# Altium schematic symbol library MSS2P3-M3_89A.SchLib: 1 symbol
Pins are listed as number, name and electrical type; pins without a type are passive.

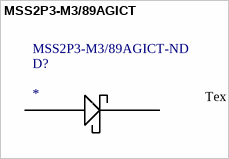
[diagram p0: symbol MSS2P3-M3/89AGICT]

## MSS2P3-M3/89AGICT
designator D?  Supplier Part Number 1: MSS2P3-M3/89AGICT-ND
Manufacturer: Vishay Semiconductors; Manufacturer Part Number: MSS2P3-M3/89A; Description: Diode Schottky 30V 2A 2-Pin Micro SMP T/R; Max Surge Current: 30A; Forward Voltage: 600mV; Forward Current: 2A; Peak Reverse Current: 250uA; Reverse Voltage (DC): 30V; Element Configuration: Single; Supplier 1: Digikey; Stock 1: 2875; Pricing 1: 1=0.39, 10=0.288, 25=0.252, 100=0.1631, 250=0.135, 500=0.108, 1000=0.0828 (USD); Mount: Surface Mount; Case/Package: SMD/SMT; Number of Pins: 2; Contact Plating: Tin; Min Operating Temperature: -55°C; Max Operating Temperature: 150°C; Packaging: Tape and Reel; Package Quantity: 4500; Average Rectified Current: 2A; Max Reverse Leakage Current: 250uA; Max Repetitive Reverse Voltage (Vrrm): 30V; Max Forward Surge Current (Ifsm): 30A; Peak Non-Repetitive Surge Current: 30A; Length: 2.3mm; Height: 0.73mm; Width: 1.4mm; Radiation Hardening: No; REACH SVHC: Unknown; Lead Free: Lead Free; ComponentLink1URL: https://datasheet.ciiva.com/22685/1719534-22685682.pdf; ComponentLink1Description: https://datasheet.ciiva.com/22685/1719534-22685682.pdf; ComponentLink2URL: https://datasheet.ciiva.com/22695/1911767-22695911.pdf; ComponentLink2Description: https://datasheet.ciiva.com/22695/1911767-22695911.pdf; ComponentLink3URL: https://datasheet.ciiva.com/917/mss2p3-917066.pdf; ComponentLink3Description: https://datasheet.ciiva.com/917/mss2p3-917066.pdf; ComponentLink4URL: https://datasheet.ciiva.com/4714/mss2p3-105575-4714794.pdf; ComponentLink4Description: https://datasheet.ciiva.com/4714/mss2p3-105575-4714794.pdf; ComponentLink5URL: https://datasheet.ciiva.com/917/mss2p3-917067.pdf; ComponentLink5Description: https://datasheet.ciiva.com/917/mss2p3-917067.pdf; ComponentLink6URL: https://datasheet.ciiva.com/917/mss2p3-917068.pdf; ComponentLink6Description: https://datasheet.ciiva.com/917/mss2p3-917068.pdf; ComponentLink7URL: https://datasheet.ciiva.com/7962/mss2p3-7962348.pdf; ComponentLink7Description: https://datasheet.ciiva.com/7962/mss2p3-7962348.pdf; ComponentLink8URL: https://datasheet.ciiva.com/8289/mss2p3-8289934.pdf; ComponentLink8Description: https://datasheet.ciiva.com/8289/mss2p3-8289934.pdf; ComponentLink9URL: https://datasheet.ciiva.com/16464/mss2p3-16464143.pdf; ComponentLink9Description: https://datasheet.ciiva.com/16464/mss2p3-16464143.pdf
footprint MSS2P3-M3_89A
pins: 1 ANODE, 2 KATHODE
text: Text